# Altium footprint library ludi_console_v1.PcbLib: 5 footprints
Each footprint in its own frame and in the unit in brackets; x right, y up, seen from the top. Pads: shape width x height; smd on the part's side, far side on the other; paste and mask are expansions set on the pad; w line width, h text height; cw(c..) or ccw(c..) is an arc to the next point about the centre after c.
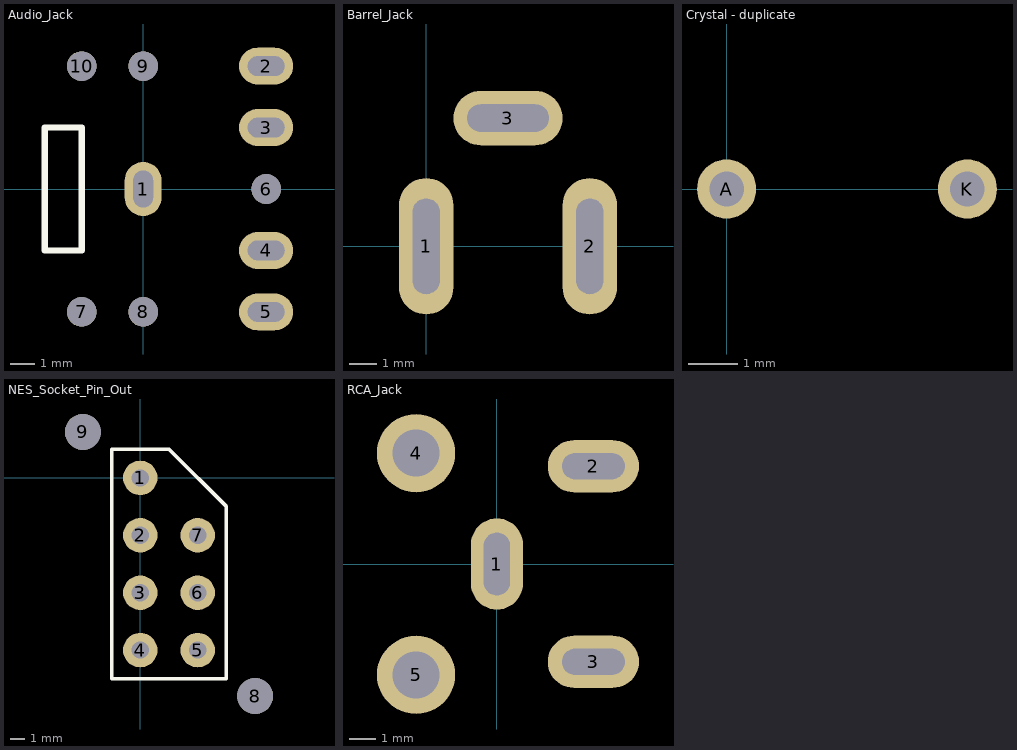
[diagram p0: the footprints below, top view; thin cyan lines are the x and y axes]

## Audio_Jack [mm]
pads (10):
  oval 1.5x2.2 hole 0.8 slot 1.5 at 90 deg mask+0.025: 1(0,0)
  oval 2.2x1.5 hole 0.8 slot 1.5 at 0 deg mask+0.025: 2(5,5) 3(5,2.5) 4(5,-2.5) 5(5,-5)
  round 1.2 hole 1.2 mask+0.025: 6(5,0) 7(-2.5,-5) 8(0,-5) 9(0,5) 10(-2.5,5)
Top Overlay:
  lines w0.254: -4,-2.5 -4,2.5 -2.5,2.5 -2.5,-2.5 -4,-2.5

## Barrel_Jack [mm]
pads (3):
  oval 2x5 hole 1 slot 3.5 at 90 deg mask+0.025: 1(0,0) 2(6,0)
  oval 4x2 hole 1 slot 3 at 0 deg mask+0.025: 3(3,4.7)

## Crystal - duplicate [mm]
pads (2):
  round 1.2 hole 0.7: A(0,0) K(4.88,0)

## NES_Socket_Pin_Out [mm]
pads (9):
  round 2.4 hole 1.2 mask+0.025: 1(0,0) 2(0,-4) 3(0,-8) 4(0,-12) 5(4,-12) 6(4,-8) 7(4,-4)
  round 2.5 hole 2.5 mask+0.025: 8(8,-15.2) 9(-4,3.2)
Top Overlay:
  lines w0.254: -2,-14 -2,2 2,2 6,-2 6,-14 -2,-14

## RCA_Jack [mm]
pads (5):
  oval 2x3.5 hole 1 slot 2.4 at 90 deg mask+0.025: 1(0,0)
  oval 3.5x2 hole 1 slot 2.4 at 0 deg mask+0.025: 2(3.7,3.75) 3(3.7,-3.75)
  round 3 hole 1.8 square mask+0.025: 4(-3.1,4.25) 5(-3.1,-4.25)